# Altium schematic symbol library TES2N-2411.SchLib: 1 symbol
Pins are listed as number, name and electrical type; pins without a type are passive.

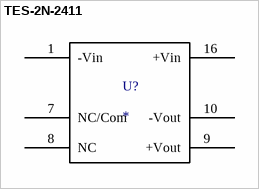
[diagram p0: symbol TES-2N-2411]

## TES-2N-2411
designator U?
footprint TES2N-2411
pins: 1 -Vin, 7 NC/Com, 8 NC, 9 +Vout, 10 -Vout, 16 +Vin